# Altium footprint library USB.PcbLib: 22 footprints (part 2 of 2)
Each footprint in its own frame and in the unit in brackets; x right, y up, seen from the top. Pads: shape width x height; smd on the part's side, far side on the other; paste and mask are expansions set on the pad; w line width, h text height; cw(c..) or ccw(c..) is an arc to the next point about the centre after c.
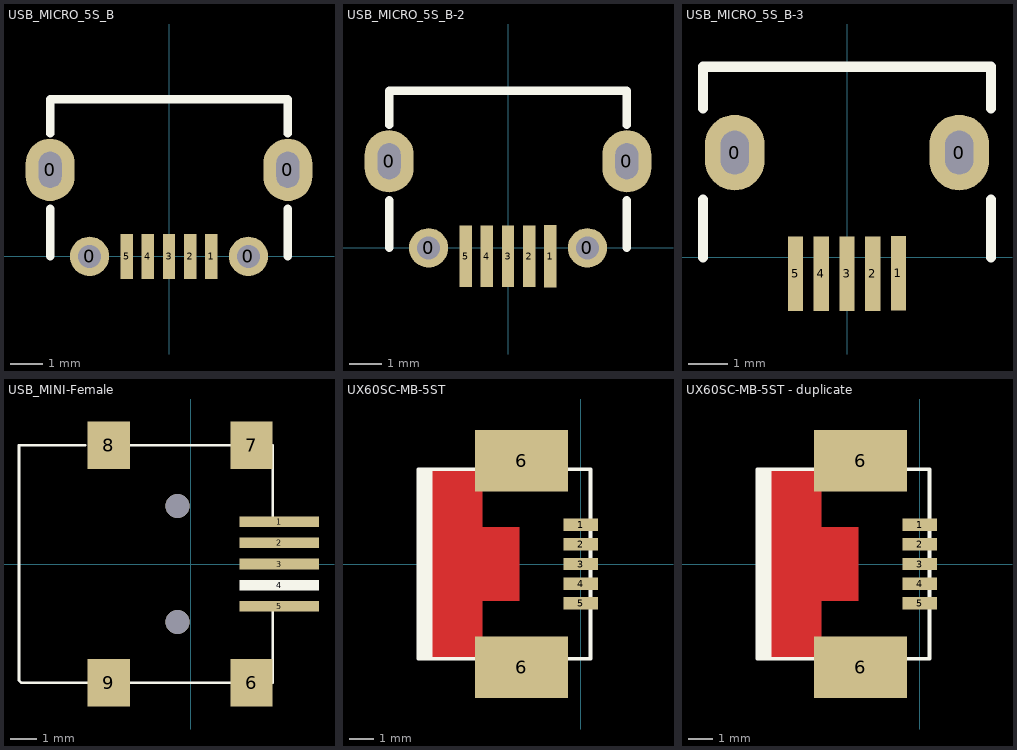
[diagram p1: the footprints below, top view; thin cyan lines are the x and y axes]

## USB_MICRO_5S_B [mil] "USB Micro SMT 5S B"
height 118.11
pads (9):
  oval 59.06x74.8 hole 27.56 slot 43.31 at 90 deg: 0(-143,104) 0(143,104)
  round 47.24 hole 27.5: 0(-95.5,0) 0(95.5,0)
  rect 15x54 smd: 1(51,0) 2(25.5,0) 3(0,0) 4(-25.5,0) 5(-51,0)
Top Overlay:
  lines w10: -142.72,0 -142.72,57.28 ; -142.72,147.72 -142.72,188.98 142.72,188.98 142.72,147.72 ; 142.72,0 142.72,57.28
3D body: height 105.31, standoff -24.61, extent -161.42,-9.33 161.41,204.44

## USB_MICRO_5S_B-2 [mil] "USB Micro SMT 5S Type B (JLC C10418)"
height 118.11
pads (9):
  oval 59.06x74.8 hole 27.56 slot 43.31 at 90 deg: 0(-143,104) 0(143,104)
  round 47.24 hole 27.5: 0(-95.5,0) 0(95.5,0)
  rect 15x75 smd: 1(51,-10)
  rect 15x74 smd: 2(25.5,-10) 3(0,-10) 4(-25.5,-10) 5(-51,-10)
Top Overlay:
  lines w10: -142.72,0 -142.72,57.28 ; -142.72,147.72 -142.72,188.98 142.72,188.98 142.72,147.72 ; 142.72,0 142.72,57.28
3D body: height 105.31, standoff -24.61, extent -161.42,-9.33 161.41,204.44

## USB_MICRO_5S_B-3 [mil] "USB Micro SMT 5S Type B (JLC C40947)"
height 118.11
pads (7):
  oval 59.06x74.8 hole 27.56 slot 43.31 at 90 deg: 0(-111.22,104) 0(111.22,104)
  rect 15x74.02 smd: 1(51,-15.75)
  rect 15x74 smd: 2(25.5,-16.25) 3(0,-16.25) 4(-25.5,-16.25) 5(-51,-16.25)
Top Overlay:
  lines w10: -142.72,0 -142.72,57.28 ; -142.72,147.72 -142.72,188.98 142.72,188.98 142.72,147.72 ; 142.72,0 142.72,57.28

## USB_MINI-Female [mm]
pads (9):
  rect 3x0.4 smd: 1(3.354,1.6) 2(3.354,0.8) 3(3.354,0) 5(3.354,-1.6)
  rect 3x0.4 on Top Overlay: 4(3.354,-0.8)
  rect 1.6x1.8 smd: 6(2.3,-4.5) 7(2.3,4.5) 8(-3.1,4.5) 9(-3.1,-4.5)
via -0.5,2.2 diameter 0.9 hole 0.9
via -0.5,-2.2 diameter 0.9 hole 0.9
Top Overlay:
  lines w0.1: -4,4.5 -6.5,4.5 -6.5,-4.4 -6.4,-4.5 -3.9,-4.5 ; -2.3,-4.5 1.5,-4.5 ; -2.3,4.5 1.5,4.5 ; 3.1,-4.5 3.1,-1.8 ; 3.1,1.8 3.1,4.5
3D body: height 4.95, standoff 0, extent -5.9,-5.35 3.3,5.35

## UX60SC-MB-5ST [mm] "Mini USB B/AB female"
height 3.95
pads (7):
  rect 1.4x0.5 smd: 1(0,1.6) 2(0,0.8) 3(0,0) 4(0,-0.8) 5(0,-1.6)
  rect 3.8x2.5 smd: 6(-2.4,-4.2) 6(-2.4,4.2)
Top Layer:
  pour cut-out: -6.6,3.85 -6.6,-3.85 -4,-3.85 -4,-1.5 -2.5,-1.5 -2.5,1.5 -4,1.5 -4,3.85
Top Overlay:
  rectangle: -6.6,-3.84 -6.1,3.84
  lines w0.152: -6.1,-3.85 -6.1,3.85 ; -6.6,-3.85 -6.6,3.85 0.4,3.85 0.4,-3.85 -6.6,-3.85
3D body: height 3.95, standoff 0, extent -6.6,-4.9 0.4,4.9

## UX60SC-MB-5ST - duplicate [mm] "Mini USB B/AB female"
height 3.95
pads (7):
  rect 1.4x0.5 smd: 1(0,1.6) 2(0,0.8) 3(0,0) 4(0,-0.8) 5(0,-1.6)
  rect 3.8x2.5 smd: 6(-2.4,-4.2) 6(-2.4,4.2)
Top Layer:
  pour cut-out: -6.6,3.85 -6.6,-3.85 -4,-3.85 -4,-1.5 -2.5,-1.5 -2.5,1.5 -4,1.5 -4,3.85
Top Overlay:
  rectangle: -6.6,-3.84 -6.1,3.84
  lines w0.152: -6.1,-3.85 -6.1,3.85 ; -6.6,-3.85 -6.6,3.85 0.4,3.85 0.4,-3.85 -6.6,-3.85
3D body: height 3.95, standoff 0, extent -6.6,-4.9 0.4,4.9